# Altium schematic symbol library APDS-9004.SchLib: 1 symbol
Pins are listed as number, name and electrical type; pins without a type are passive.

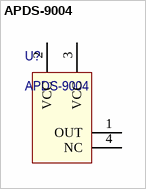
[diagram p0: symbol APDS-9004]

## APDS-9004
designator U?
pins: 1 OUT, 2 VCC (power), 3 VCC (power), 4 NC